# Altium footprint library altera.PCBLIB: 27 footprints (part 1 of 4)
Each footprint in its own frame and in the unit in brackets; x right, y up, seen from the top. Pads: shape width x height; smd on the part's side, far side on the other; paste and mask are expansions set on the pad; w line width, h text height; cw(c..) or ccw(c..) is an arc to the next point about the centre after c.
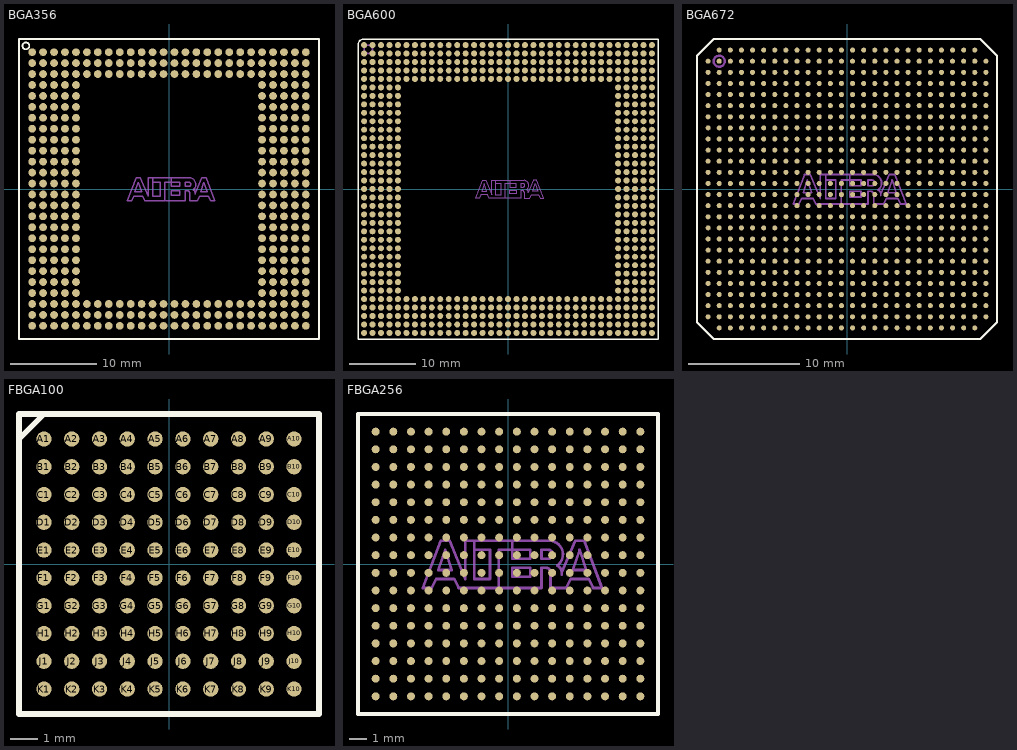
[diagram p0: the footprints below, top view; thin cyan lines are the x and y axes]

## BGA356 [mil]
pads (356):
  rrect100% 35.43x35.43 smd: A1(-625,625) A2(-575,625) A3(-525,625) A4(-475,625) A5(-425,625) A6(-375,625) A7(-325,625) A8(-275,625) A9(-225,625) A10(-175,625) A11(-125,625) A12(-75,625) A13(-25,625) A14(25,625) A15(75,625) A16(125,625) A17(175,625) A18(225,625) A19(275,625) A20(325,625) A21(375,625) A22(425,625) A23(475,625) A24(525,625) A25(575,625) A26(625,625) AA1(-625,-375) AA2(-575,-375) AA3(-525,-375) AA4(-475,-375) AA5(-425,-375) AA22(425,-375) AA23(475,-375) AA24(525,-375) AA25(575,-375) AA26(625,-375) AB1(-625,-425) AB2(-575,-425) AB3(-525,-425) AB4(-475,-425) AB5(-425,-425) AB22(425,-425) AB23(475,-425) AB24(525,-425) AB25(575,-425) AB26(625,-425) AC1(-625,-475) AC2(-575,-475) AC3(-525,-475) AC4(-475,-475) AC5(-425,-475) AC22(425,-475) AC23(475,-475) AC24(525,-475) AC25(575,-475) AC26(625,-475) AD1(-625,-525) AD2(-575,-525) AD3(-525,-525) AD4(-475,-525) AD5(-425,-525) AD6(-375,-525) AD7(-325,-525) AD8(-275,-525) AD9(-225,-525) AD10(-175,-525) AD11(-125,-525) AD12(-75,-525) AD13(-25,-525) AD14(25,-525) AD15(75,-525) AD16(125,-525) AD17(175,-525) AD18(225,-525) AD19(275,-525) AD20(325,-525) AD21(375,-525) AD22(425,-525) AD23(475,-525) AD24(525,-525) AD25(575,-525) AD26(625,-525) AE1(-625,-575) AE2(-575,-575) AE3(-525,-575) AE4(-475,-575) AE5(-425,-575) AE6(-375,-575) AE7(-325,-575) AE8(-275,-575) AE9(-225,-575) AE10(-175,-575) AE11(-125,-575) AE12(-75,-575) AE13(-25,-575) AE14(25,-575) AE15(75,-575) AE16(125,-575) AE17(175,-575) AE18(225,-575) AE19(275,-575) AE20(325,-575) AE21(375,-575) AE22(425,-575) AE23(475,-575) AE24(525,-575) AE25(575,-575) AE26(625,-575) AF1(-625,-625) AF2(-575,-625) AF3(-525,-625) AF4(-475,-625) AF5(-425,-625) AF6(-375,-625) AF7(-325,-625) AF8(-275,-625) AF9(-225,-625) AF10(-175,-625) AF11(-125,-625) AF12(-75,-625) AF13(-25,-625) AF14(25,-625) AF15(75,-625) AF16(125,-625) AF17(175,-625) AF18(225,-625) AF19(275,-625) AF20(325,-625) AF21(375,-625) AF22(425,-625) AF23(475,-625) AF24(525,-625) AF25(575,-625) AF26(625,-625) B1(-625,575) B2(-575,575) B3(-525,575) B4(-475,575) B5(-425,575) B6(-375,575) B7(-325,575) B8(-275,575) B9(-225,575) B10(-175,575) B11(-125,575) B12(-75,575) B13(-25,575) B14(25,575) B15(75,575) B16(125,575) B17(175,575) B18(225,575) B19(275,575) B20(325,575) B21(375,575) B22(425,575) B23(475,575) B24(525,575) B25(575,575) B26(625,575) C1(-625,525) C2(-575,525) C3(-525,525) C4(-475,525) C5(-425,525) C6(-375,525) C7(-325,525) C8(-275,525) C9(-225,525) C10(-175,525) C11(-125,525) C12(-75,525) C13(-25,525) C14(25,525) C15(75,525) C16(125,525) C17(175,525) C18(225,525) C19(275,525) C20(325,525) C21(375,525) C22(425,525) C23(475,525) C24(525,525) C25(575,525) C26(625,525) D1(-625,475) D2(-575,475) D3(-525,475) D4(-475,475) D5(-425,475) D22(425,475) D23(475,475) D24(525,475) D25(575,475) D26(625,475) E1(-625,425) E2(-575,425) E3(-525,425) E4(-475,425) E5(-425,425) E22(425,425) E23(475,425) E24(525,425) E25(575,425) E26(625,425) F1(-625,375) F2(-575,375) F3(-525,375) F4(-475,375) F5(-425,375) F22(425,375) F23(475,375) F24(525,375) F25(575,375) F26(625,375) G1(-625,325) G2(-575,325) G3(-525,325) G4(-475,325) G5(-425,325) G22(425,325) G23(475,325) G24(525,325) G25(575,325) G26(625,325) H1(-625,275) H2(-575,275) H3(-525,275) H4(-475,275) H5(-425,275) H22(425,275) H23(475,275) H24(525,275) H25(575,275) H26(625,275) J1(-625,225) J2(-575,225) J3(-525,225) J4(-475,225) J5(-425,225) J22(425,225) J23(475,225) J24(525,225) J25(575,225) J26(625,225) K1(-625,175) K2(-575,175) K3(-525,175) K4(-475,175) K5(-425,175) K22(425,175) K23(475,175) K24(525,175) K25(575,175) K26(625,175) L1(-625,125) L2(-575,125) L3(-525,125) L4(-475,125) L5(-425,125) L22(425,125) L23(475,125) L24(525,125) L25(575,125) L26(625,125) M1(-625,75) M2(-575,75) M3(-525,75) M4(-475,75) M5(-425,75) M22(425,75) M23(475,75) M24(525,75) M25(575,75) M26(625,75) N1(-625,25) N2(-575,25) N3(-525,25) N4(-475,25) N5(-425,25) N22(425,25) N23(475,25) N24(525,25) N25(575,25) N26(625,25) P1(-625,-25) P2(-575,-25) P3(-525,-25) P4(-475,-25) P5(-425,-25) P22(425,-25) P23(475,-25) P24(525,-25) P25(575,-25) P26(625,-25) R1(-625,-75) R2(-575,-75) R3(-525,-75) R4(-475,-75) R5(-425,-75) R22(425,-75) R23(475,-75) R24(525,-75) R25(575,-75) R26(625,-75) T1(-625,-125) T2(-575,-125) T3(-525,-125) T4(-475,-125) T5(-425,-125) T22(425,-125) T23(475,-125) T24(525,-125) T25(575,-125) T26(625,-125) U1(-625,-175) U2(-575,-175) U3(-525,-175) U4(-475,-175) U5(-425,-175) U22(425,-175) U23(475,-175) U24(525,-175) U25(575,-175) U26(625,-175) V1(-625,-225) V2(-575,-225) V3(-525,-225) V4(-475,-225) V5(-425,-225) V22(425,-225) V23(475,-225) V24(525,-225) V25(575,-225) V26(625,-225) W1(-625,-275) W2(-575,-275) W3(-525,-275) W4(-475,-275) W5(-425,-275) W22(425,-275) W23(475,-275) W24(525,-275) W25(575,-275) W26(625,-275) Y1(-625,-325) Y2(-575,-325) Y3(-525,-325) Y4(-475,-325) Y5(-425,-325) Y22(425,-325) Y23(475,-325) Y24(525,-325) Y25(575,-325) Y26(625,-325)
Top Overlay:
  circle w8: c-653.54,653.54 r15.74
  lines w8: -685.04,-685.04 -685.04,685.04 685.04,685.04 685.04,-685.04 -685.04,-685.04
Mechanical 16:
  lines w6: -15.32,-53.43 74.69,-53.43 74.69,-8.43 84.69,-8.43 cw(c84.69,-18.43) 94.69,-18.43 94.69,-53.43 129.69,-53.43 139.69,-33.43 179.69,-33.43 189.69,-53.43 209.69,-53.43 169.69,51.57 149.69,51.57 119.69,-18.43 ; 119.68,-23.43 ccw(c102.19,-19.67) 109.69,-3.43 ccw(c92.19,21.34) 94.69,51.57 9.69,51.57 ; -75.32,31.57 -75.32,51.57 ; -75.32,31.57 -75.32,-33.43 -40.32,-33.43 -40.32,31.57 -75.32,31.57 ; -75.32,51.57 -95.32,51.57 -95.32,-33.43 -130.32,51.57 -150.32,51.57 -190.32,-53.43 -170.32,-53.43 -160.32,-33.43 -120.32,-33.43 -110.32,-53.43 -20.32,-53.43 -20.32,31.57 9.69,31.57 ; -75.32,51.57 9.69,51.57 ; 9.69,31.57 9.69,51.57 ; 9.69,31.57 9.69,11.57 49.69,11.57 49.69,31.57 9.69,31.57 ; -155.32,-13.43 -140.32,31.57 -125.32,-13.43 -155.32,-13.43 ; 9.69,-28.43 49.69,-28.43 49.69,-8.43 9.69,-8.43 9.69,-28.43 ; 74.69,11.57 74.69,31.57 89.69,31.57 cw(c89.69,21.57) 89.69,11.57 74.69,11.57 ; 144.69,-13.43 174.69,-13.43 159.69,31.57 144.69,-13.43
  text "BGA356" at -35.63,-403.74 h49.6

## BGA600 [mil]
pads (600):
  rrect100% 35.43x35.43 smd: A1(-850,850) A2(-800,850) A3(-750,850) A4(-700,850) A5(-650,850) A6(-600,850) A7(-550,850) A8(-500,850) A9(-450,850) A10(-400,850) A11(-350,850) A12(-300,850) A13(-250,850) A14(-200,850) A15(-150,850) A16(-100,850) A17(-50,850) A18(0,850) A19(50,850) A20(100,850) A21(150,850) A22(200,850) A23(250,850) A24(300,850) A25(350,850) A26(400,850) A27(450,850) A28(500,850) A29(550,850) A30(600,850) A31(650,850) A32(700,850) A33(750,850) A34(800,850) A35(850,850) AA1(-850,-150) AA2(-800,-150) AA3(-750,-150) AA4(-700,-150) AA5(-650,-150) AA31(650,-150) AA32(700,-150) AA33(750,-150) AA34(800,-150) AA35(850,-150) AB1(-850,-200) AB2(-800,-200) AB3(-750,-200) AB4(-700,-200) AB5(-650,-200) AB31(650,-200) AB32(700,-200) AB33(750,-200) AB34(800,-200) AB35(850,-200) AC1(-850,-250) AC2(-800,-250) AC3(-750,-250) AC4(-700,-250) AC5(-650,-250) AC31(650,-250) AC32(700,-250) AC33(750,-250) AC34(800,-250) AC35(850,-250) AD1(-850,-300) AD2(-800,-300) AD3(-750,-300) AD4(-700,-300) AD5(-650,-300) AD31(650,-300) AD32(700,-300) AD33(750,-300) AD34(800,-300) AD35(850,-300) AE1(-850,-350) AE2(-800,-350) AE3(-750,-350) AE4(-700,-350) AE5(-650,-350) AE31(650,-350) AE32(700,-350) AE33(750,-350) AE34(800,-350) AE35(850,-350) AF1(-850,-400) AF2(-800,-400) AF3(-750,-400) AF4(-700,-400) AF5(-650,-400) AF31(650,-400) AF32(700,-400) AF33(750,-400) AF34(800,-400) AF35(850,-400) AG1(-850,-450) AG2(-800,-450) AG3(-750,-450) AG4(-700,-450) AG5(-650,-450) AG31(650,-450) AG32(700,-450) AG33(750,-450) AG34(800,-450) AG35(850,-450) AH1(-850,-500) AH2(-800,-500) AH3(-750,-500) AH4(-700,-500) AH5(-650,-500) AH31(650,-500) AH32(700,-500) AH33(750,-500) AH34(800,-500) AH35(850,-500) AJ1(-850,-550) AJ2(-800,-550) AJ3(-750,-550) AJ4(-700,-550) AJ5(-650,-550) AJ31(650,-550) AJ32(700,-550) AJ33(750,-550) AJ34(800,-550) AJ35(850,-550) AK1(-850,-600) AK2(-800,-600) AK3(-750,-600) AK4(-700,-600) AK5(-650,-600) AK31(650,-600) AK32(700,-600) AK33(750,-600) AK34(800,-600) AK35(850,-600) AL1(-850,-650) AL2(-800,-650) AL3(-750,-650) AL4(-700,-650) AL5(-650,-650) AL6(-600,-650) AL7(-550,-650) AL8(-500,-650) AL9(-450,-650) AL10(-400,-650) AL11(-350,-650) AL12(-300,-650) AL13(-250,-650) AL14(-200,-650) AL15(-150,-650) AL16(-100,-650) AL17(-50,-650) AL18(0,-650) AL19(50,-650) AL20(100,-650) AL21(150,-650) AL22(200,-650) AL23(250,-650) AL24(300,-650) AL25(350,-650) AL26(400,-650) AL27(450,-650) AL28(500,-650) AL29(550,-650) AL30(600,-650) AL31(650,-650) AL32(700,-650) AL33(750,-650) AL34(800,-650) AL35(850,-650) AM1(-850,-700) AM2(-800,-700) AM3(-750,-700) AM4(-700,-700) AM5(-650,-700) AM6(-600,-700) AM7(-550,-700) AM8(-500,-700) AM9(-450,-700) AM10(-400,-700) AM11(-350,-700) AM12(-300,-700) AM13(-250,-700) AM14(-200,-700) AM15(-150,-700) AM16(-100,-700) AM17(-50,-700) AM18(0,-700) AM19(50,-700) AM20(100,-700) AM21(150,-700) AM22(200,-700) AM23(250,-700) AM24(300,-700) AM25(350,-700) AM26(400,-700) AM27(450,-700) AM28(500,-700) AM29(550,-700) AM30(600,-700) AM31(650,-700) AM32(700,-700) AM33(750,-700) AM34(800,-700) AM35(850,-700) AN1(-850,-750) AN2(-800,-750) AN3(-750,-750) AN4(-700,-750) AN5(-650,-750) AN6(-600,-750) AN7(-550,-750) AN8(-500,-750) AN9(-450,-750) AN10(-400,-750) AN11(-350,-750) AN12(-300,-750) AN13(-250,-750) AN14(-200,-750) AN15(-150,-750) AN16(-100,-750) AN17(-50,-750) AN18(0,-750) AN19(50,-750) AN20(100,-750) AN21(150,-750) AN22(200,-750) AN23(250,-750) AN24(300,-750) AN25(350,-750) AN26(400,-750) AN27(450,-750) AN28(500,-750) AN29(550,-750) AN30(600,-750) AN31(650,-750) AN32(700,-750) AN33(750,-750) AN34(800,-750) AN35(850,-750) AP1(-850,-800) AP2(-800,-800) AP3(-750,-800) AP4(-700,-800) AP5(-650,-800) AP6(-600,-800) AP7(-550,-800) AP8(-500,-800) AP9(-450,-800) AP10(-400,-800) AP11(-350,-800) AP12(-300,-800) AP13(-250,-800) AP14(-200,-800) AP15(-150,-800) AP16(-100,-800) AP17(-50,-800) AP18(0,-800) AP19(50,-800) AP20(100,-800) AP21(150,-800) AP22(200,-800) AP23(250,-800) AP24(300,-800) AP25(350,-800) AP26(400,-800) AP27(450,-800) AP28(500,-800) AP29(550,-800) AP30(600,-800) AP31(650,-800) AP32(700,-800) AP33(750,-800) AP34(800,-800) AP35(850,-800) AR1(-850,-850) AR2(-800,-850) AR3(-750,-850) AR4(-700,-850) AR5(-650,-850) AR6(-600,-850) AR7(-550,-850) AR8(-500,-850) AR9(-450,-850) AR10(-400,-850) AR11(-350,-850) AR12(-300,-850) AR13(-250,-850) AR14(-200,-850) AR15(-150,-850) AR16(-100,-850) AR17(-50,-850) AR18(0,-850) AR19(50,-850) AR20(100,-850) AR21(150,-850) AR22(200,-850) AR23(250,-850) AR24(300,-850) AR25(350,-850) AR26(400,-850) AR27(450,-850) AR28(500,-850) AR29(550,-850) AR30(600,-850) AR31(650,-850) AR32(700,-850) AR33(750,-850) AR34(800,-850) AR35(850,-850) B1(-850,800) B2(-800,800) B3(-750,800) B4(-700,800) B5(-650,800) B6(-600,800) B7(-550,800) B8(-500,800) B9(-450,800) B10(-400,800) B11(-350,800) B12(-300,800) B13(-250,800) B14(-200,800) B15(-150,800) B16(-100,800) B17(-50,800) B18(0,800) B19(50,800) B20(100,800) B21(150,800) B22(200,800) B23(250,800) B24(300,800) B25(350,800) B26(400,800) B27(450,800) B28(500,800) B29(550,800) B30(600,800) B31(650,800) B32(700,800) B33(750,800) B34(800,800) B35(850,800) C1(-850,750) C2(-800,750) C3(-750,750) C4(-700,750) C5(-650,750) C6(-600,750) C7(-550,750) C8(-500,750) C9(-450,750) C10(-400,750) C11(-350,750) C12(-300,750) C13(-250,750) C14(-200,750) C15(-150,750) C16(-100,750) C17(-50,750) C18(0,750) C19(50,750) C20(100,750) C21(150,750) C22(200,750) C23(250,750) C24(300,750) C25(350,750) C26(400,750) C27(450,750) C28(500,750) C29(550,750) C30(600,750) C31(650,750) C32(700,750) C33(750,750) C34(800,750) C35(850,750) D1(-850,700) D2(-800,700) D3(-750,700) D4(-700,700) D5(-650,700) D6(-600,700) D7(-550,700) D8(-500,700) D9(-450,700) D10(-400,700) D11(-350,700) D12(-300,700) D13(-250,700) D14(-200,700) D15(-150,700) D16(-100,700) D17(-50,700) D18(0,700) D19(50,700) D20(100,700) D21(150,700) D22(200,700) D23(250,700) D24(300,700) D25(350,700) D26(400,700) D27(450,700) D28(500,700) D29(550,700) D30(600,700) D31(650,700) D32(700,700) D33(750,700) D34(800,700) D35(850,700) E1(-850,650) E2(-800,650) E3(-750,650) E4(-700,650) E5(-650,650) E6(-600,650) E7(-550,650) E8(-500,650) E9(-450,650) E10(-400,650) E11(-350,650) E12(-300,650) E13(-250,650) E14(-200,650) E15(-150,650) E16(-100,650) E17(-50,650) E18(0,650) E19(50,650) E20(100,650) E21(150,650) E22(200,650) E23(250,650) E24(300,650) E25(350,650) E26(400,650) E27(450,650) E28(500,650) E29(550,650) E30(600,650) E31(650,650) E32(700,650) E33(750,650) E34(800,650) E35(850,650) F1(-850,600) F2(-800,600) F3(-750,600) F4(-700,600) F5(-650,600) F31(650,600) F32(700,600) F33(750,600) F34(800,600) F35(850,600) G1(-850,550) G2(-800,550) G3(-750,550) G4(-700,550) G5(-650,550) G31(650,550) G32(700,550) G33(750,550) G34(800,550) G35(850,550) H1(-850,500) H2(-800,500) H3(-750,500) H4(-700,500) H5(-650,500) H31(650,500) H32(700,500) H33(750,500) H34(800,500) H35(850,500) J1(-850,450) J2(-800,450) J3(-750,450) J4(-700,450) J5(-650,450) J31(650,450) J32(700,450) J33(750,450) J34(800,450) J35(850,450) K1(-850,400) K2(-800,400) K3(-750,400) K4(-700,400) K5(-650,400) K31(650,400) K32(700,400) K33(750,400) K34(800,400) K35(850,400) L1(-850,350) L2(-800,350) L3(-750,350) L4(-700,350) L5(-650,350) L31(650,350) L32(700,350) L33(750,350) L34(800,350) L35(850,350) M1(-850,300) M2(-800,300) M3(-750,300) M4(-700,300) M5(-650,300) M31(650,300) M32(700,300) M33(750,300) M34(800,300) M35(850,300) N1(-850,250) N2(-800,250) N3(-750,250) N4(-700,250) N5(-650,250) N31(650,250) N32(700,250) N33(750,250) N34(800,250) N35(850,250) P1(-850,200) P2(-800,200) P3(-750,200) P4(-700,200) P5(-650,200) P31(650,200) P32(700,200) P33(750,200) P34(800,200) P35(850,200) R1(-850,150) R2(-800,150) R3(-750,150) R4(-700,150) R5(-650,150) R31(650,150) R32(700,150) R33(750,150) R34(800,150) R35(850,150) T1(-850,100) T2(-800,100) T3(-750,100) T4(-700,100) T5(-650,100) T31(650,100) T32(700,100) T33(750,100) T34(800,100) T35(850,100) U1(-850,50) U2(-800,50) U3(-750,50) U4(-700,50) U5(-650,50) U31(650,50) U32(700,50) U33(750,50) U34(800,50) U35(850,50) V1(-850,0) V2(-800,0) V3(-750,0) V4(-700,0) V5(-650,0) V31(650,0) V32(700,0) V33(750,0) V34(800,0) V35(850,0) W1(-850,-50) W2(-800,-50) W3(-750,-50) W4(-700,-50) W5(-650,-50) W31(650,-50) W32(700,-50) W33(750,-50) W34(800,-50) W35(850,-50) Y1(-850,-100) Y2(-800,-100) Y3(-750,-100) Y4(-700,-100) Y5(-650,-100) Y31(650,-100) Y32(700,-100) Y33(750,-100) Y34(800,-100) Y35(850,-100)
Top Overlay:
  lines w8: -885.83,-885.83 885.83,-885.83 885.83,885.83 -850.39,885.83 ccw(c-850.39,850.39) -885.83,850.39 -885.83,-885.83
Mechanical 16:
  circle w8: c-825,825 r25
  lines w6: -15.32,-53.43 74.69,-53.43 74.69,-8.43 84.69,-8.43 cw(c84.69,-18.43) 94.69,-18.43 94.69,-53.43 129.69,-53.43 139.69,-33.43 179.69,-33.43 189.69,-53.43 209.69,-53.43 169.69,51.57 149.69,51.57 119.69,-18.43 ; 119.68,-23.43 ccw(c102.19,-19.67) 109.69,-3.43 ccw(c92.19,21.34) 94.69,51.57 9.69,51.57 ; -75.32,31.57 -75.32,51.57 ; -75.32,31.57 -75.32,-33.43 -40.32,-33.43 -40.32,31.57 -75.32,31.57 ; -75.32,51.57 -95.32,51.57 -95.32,-33.43 -130.32,51.57 -150.32,51.57 -190.32,-53.43 -170.32,-53.43 -160.32,-33.43 -120.32,-33.43 -110.32,-53.43 -20.32,-53.43 -20.32,31.57 9.69,31.57 ; -75.32,51.57 9.69,51.57 ; 9.69,31.57 9.69,51.57 ; 9.69,31.57 9.69,11.57 49.69,11.57 49.69,31.57 9.69,31.57 ; -155.32,-13.43 -140.32,31.57 -125.32,-13.43 -155.32,-13.43 ; 9.69,-28.43 49.69,-28.43 49.69,-8.43 9.69,-8.43 9.69,-28.43 ; 74.69,11.57 74.69,31.57 89.69,31.57 cw(c89.69,21.57) 89.69,11.57 74.69,11.57 ; 144.69,-13.43 174.69,-13.43 159.69,31.57 144.69,-13.43
  text "BGA600" at -35.63,-453.74 h49.6

## BGA672 [mil]
pads (672):
  rrect100% 17.72x17.72 smd: A2(-452.76,492.13) A3(-413.39,492.13) A4(-374.02,492.13) A5(-334.65,492.13) A6(-295.28,492.13) A7(-255.91,492.13) A8(-216.54,492.13) A9(-177.17,492.13) A10(-137.8,492.13) A11(-98.43,492.13) A12(-59.06,492.13) A13(-19.69,492.13) A14(19.69,492.13) A15(59.06,492.13) A16(98.43,492.13) A17(137.8,492.13) A18(177.17,492.13) A19(216.54,492.13) A20(255.91,492.13) A21(295.28,492.13) A22(334.65,492.13) A23(374.02,492.13) A24(413.39,492.13) A25(452.76,492.13) AA1(-492.13,-295.28) AA2(-452.76,-295.28) AA3(-413.39,-295.28) AA4(-374.02,-295.28) AA5(-334.65,-295.28) AA6(-295.28,-295.28) AA7(-255.91,-295.28) AA8(-216.54,-295.28) AA9(-177.17,-295.28) AA10(-137.8,-295.28) AA11(-98.43,-295.28) AA12(-59.06,-295.28) AA13(-19.69,-295.28) AA14(19.69,-295.28) AA15(59.06,-295.28) AA16(98.43,-295.28) AA17(137.8,-295.28) AA18(177.17,-295.28) AA19(216.54,-295.28) AA20(255.91,-295.28) AA21(295.28,-295.28) AA22(334.65,-295.28) AA23(374.02,-295.28) AA24(413.39,-295.28) AA25(452.76,-295.28) AA26(492.13,-295.28) AB1(-492.13,-334.65) AB2(-452.76,-334.65) AB3(-413.39,-334.65) AB4(-374.02,-334.65) AB5(-334.65,-334.65) AB6(-295.28,-334.65) AB7(-255.91,-334.65) AB8(-216.54,-334.65) AB9(-177.17,-334.65) AB10(-137.8,-334.65) AB11(-98.43,-334.65) AB12(-59.06,-334.65) AB13(-19.69,-334.65) AB14(19.69,-334.65) AB15(59.06,-334.65) AB16(98.43,-334.65) AB17(137.8,-334.65) AB18(177.17,-334.65) AB19(216.54,-334.65) AB20(255.91,-334.65) AB21(295.28,-334.65) AB22(334.65,-334.65) AB23(374.02,-334.65) AB24(413.39,-334.65) AB25(452.76,-334.65) AB26(492.13,-334.65) AC1(-492.13,-374.02) AC2(-452.76,-374.02) AC3(-413.39,-374.02) AC4(-374.02,-374.02) AC5(-334.65,-374.02) AC6(-295.28,-374.02) AC7(-255.91,-374.02) AC8(-216.54,-374.02) AC9(-177.17,-374.02) AC10(-137.8,-374.02) AC11(-98.43,-374.02) AC12(-59.06,-374.02) AC13(-19.69,-374.02) AC14(19.69,-374.02) AC15(59.06,-374.02) AC16(98.43,-374.02) AC17(137.8,-374.02) AC18(177.17,-374.02) AC19(216.54,-374.02) AC20(255.91,-374.02) AC21(295.28,-374.02) AC22(334.65,-374.02) AC23(374.02,-374.02) AC24(413.39,-374.02) AC25(452.76,-374.02) AC26(492.13,-374.02) AD1(-492.13,-413.39) AD2(-452.76,-413.39) AD3(-413.39,-413.39) AD4(-374.02,-413.39) AD5(-334.65,-413.39) AD6(-295.28,-413.39) AD7(-255.91,-413.39) AD8(-216.54,-413.39) AD9(-177.17,-413.39) AD10(-137.8,-413.39) AD11(-98.43,-413.39) AD12(-59.06,-413.39) AD13(-19.69,-413.39) AD14(19.69,-413.39) AD15(59.06,-413.39) AD16(98.43,-413.39) AD17(137.8,-413.39) AD18(177.17,-413.39) AD19(216.54,-413.39) AD20(255.91,-413.39) AD21(295.28,-413.39) AD22(334.65,-413.39) AD23(374.02,-413.39) AD24(413.39,-413.39) AD25(452.76,-413.39) AD26(492.13,-413.39) AE1(-492.13,-452.76) AE2(-452.76,-452.76) AE3(-413.39,-452.76) AE4(-374.02,-452.76) AE5(-334.65,-452.76) AE6(-295.28,-452.76) AE7(-255.91,-452.76) AE8(-216.54,-452.76) AE9(-177.17,-452.76) AE10(-137.8,-452.76) AE11(-98.43,-452.76) AE12(-59.06,-452.76) AE13(-19.69,-452.76) AE14(19.69,-452.76) AE15(59.06,-452.76) AE16(98.43,-452.76) AE17(137.8,-452.76) AE18(177.17,-452.76) AE19(216.54,-452.76) AE20(255.91,-452.76) AE21(295.28,-452.76) AE22(334.65,-452.76) AE23(374.02,-452.76) AE24(413.39,-452.76) AE25(452.76,-452.76) AE26(492.13,-452.76) AF2(-452.76,-492.13) AF3(-413.39,-492.13) AF4(-374.02,-492.13) AF5(-334.65,-492.13) AF6(-295.28,-492.13) AF7(-255.91,-492.13) AF8(-216.54,-492.13) AF9(-177.17,-492.13) AF10(-137.8,-492.13) AF11(-98.43,-492.13) AF12(-59.06,-492.13) AF13(-19.69,-492.13) AF14(19.69,-492.13) AF15(59.06,-492.13) AF16(98.43,-492.13) AF17(137.8,-492.13) AF18(177.17,-492.13) AF19(216.54,-492.13) AF20(255.91,-492.13) AF21(295.28,-492.13) AF22(334.65,-492.13) AF23(374.02,-492.13) AF24(413.39,-492.13) AF25(452.76,-492.13) B1(-492.13,452.76) B2(-452.76,452.76) B3(-413.39,452.76) B4(-374.02,452.76) B5(-334.65,452.76) B6(-295.28,452.76) B7(-255.91,452.76) B8(-216.54,452.76) B9(-177.17,452.76) B10(-137.8,452.76) B11(-98.43,452.76) B12(-59.06,452.76) B13(-19.69,452.76) B14(19.69,452.76) B15(59.06,452.76) B16(98.43,452.76) B17(137.8,452.76) B18(177.17,452.76) B19(216.54,452.76) B20(255.91,452.76) B21(295.28,452.76) B22(334.65,452.76) B23(374.02,452.76) B24(413.39,452.76) B25(452.76,452.76) B26(492.13,452.76) C1(-492.13,413.39) C2(-452.76,413.39) C3(-413.39,413.39) C4(-374.02,413.39) C5(-334.65,413.39) C6(-295.28,413.39) C7(-255.91,413.39) C8(-216.54,413.39) C9(-177.17,413.39) C10(-137.8,413.39) C11(-98.43,413.39) C12(-59.06,413.39) C13(-19.69,413.39) C14(19.69,413.39) C15(59.06,413.39) C16(98.43,413.39) C17(137.8,413.39) C18(177.17,413.39) C19(216.54,413.39) C20(255.91,413.39) C21(295.28,413.39) C22(334.65,413.39) C23(374.02,413.39) C24(413.39,413.39) C25(452.76,413.39) C26(492.13,413.39) D1(-492.13,374.02) D2(-452.76,374.02) D3(-413.39,374.02) D4(-374.02,374.02) D5(-334.65,374.02) D6(-295.28,374.02) D7(-255.91,374.02) D8(-216.54,374.02) D9(-177.17,374.02) D10(-137.8,374.02) D11(-98.43,374.02) D12(-59.06,374.02) D13(-19.69,374.02) D14(19.69,374.02) D15(59.06,374.02) D16(98.43,374.02) D17(137.8,374.02) D18(177.17,374.02) D19(216.54,374.02) D20(255.91,374.02) D21(295.28,374.02) D22(334.65,374.02) D23(374.02,374.02) D24(413.39,374.02) D25(452.76,374.02) D26(492.13,374.02) E1(-492.13,334.65) E2(-452.76,334.65) E3(-413.39,334.65) E4(-374.02,334.65) E5(-334.65,334.65) E6(-295.28,334.65) E7(-255.91,334.65) E8(-216.54,334.65) E9(-177.17,334.65) E10(-137.8,334.65) E11(-98.43,334.65) E12(-59.06,334.65) E13(-19.69,334.65) E14(19.69,334.65) E15(59.06,334.65) E16(98.43,334.65) E17(137.8,334.65) E18(177.17,334.65) E19(216.54,334.65) E20(255.91,334.65) E21(295.28,334.65) E22(334.65,334.65) E23(374.02,334.65) E24(413.39,334.65) E25(452.76,334.65) E26(492.13,334.65) F1(-492.13,295.28) F2(-452.76,295.28) F3(-413.39,295.28) F4(-374.02,295.28) F5(-334.65,295.28) F6(-295.28,295.28) F7(-255.91,295.28) F8(-216.54,295.28) F9(-177.17,295.28) F10(-137.8,295.28) F11(-98.43,295.28) F12(-59.06,295.28) F13(-19.69,295.28) F14(19.69,295.28) F15(59.06,295.28) F16(98.43,295.28) F17(137.8,295.28) F18(177.17,295.28) F19(216.54,295.28) F20(255.91,295.28) F21(295.28,295.28) F22(334.65,295.28) F23(374.02,295.28) F24(413.39,295.28) F25(452.76,295.28) F26(492.13,295.28) G1(-492.13,255.91) G2(-452.76,255.91) G3(-413.39,255.91) G4(-374.02,255.91) G5(-334.65,255.91) G6(-295.28,255.91) G7(-255.91,255.91) G8(-216.54,255.91) G9(-177.17,255.91) G10(-137.8,255.91) G11(-98.43,255.91) G12(-59.06,255.91) G13(-19.69,255.91) G14(19.69,255.91) G15(59.06,255.91) G16(98.43,255.91) G17(137.8,255.91) G18(177.17,255.91) G19(216.54,255.91) G20(255.91,255.91) G21(295.28,255.91) G22(334.65,255.91) G23(374.02,255.91) G24(413.39,255.91) G25(452.76,255.91) G26(492.13,255.91) H1(-492.13,216.54) H2(-452.76,216.54) H3(-413.39,216.54) H4(-374.02,216.54) H5(-334.65,216.54) H6(-295.28,216.54) H7(-255.91,216.54) H8(-216.54,216.54) H9(-177.17,216.54) H10(-137.8,216.54) H11(-98.43,216.54) H12(-59.06,216.54) H13(-19.69,216.54) H14(19.69,216.54) H15(59.06,216.54) H16(98.43,216.54) H17(137.8,216.54) H18(177.17,216.54) H19(216.54,216.54) H20(255.91,216.54) H21(295.28,216.54) H22(334.65,216.54) H23(374.02,216.54) H24(413.39,216.54) H25(452.76,216.54) H26(492.13,216.54) J1(-492.13,177.17) J2(-452.76,177.17) J3(-413.39,177.17) J4(-374.02,177.17) J5(-334.65,177.17) J6(-295.28,177.17) J7(-255.91,177.17) J8(-216.54,177.17) J9(-177.17,177.17) J10(-137.8,177.17) J11(-98.43,177.17) J12(-59.06,177.17) J13(-19.69,177.17) J14(19.69,177.17) J15(59.06,177.17) J16(98.43,177.17) J17(137.8,177.17) J18(177.17,177.17) J19(216.54,177.17) J20(255.91,177.17) J21(295.28,177.17) J22(334.65,177.17) J23(374.02,177.17) J24(413.39,177.17) J25(452.76,177.17) J26(492.13,177.17) K1(-492.13,137.8) K2(-452.76,137.8) K3(-413.39,137.8) K4(-374.02,137.8) K5(-334.65,137.8) K6(-295.28,137.8) K7(-255.91,137.8) K8(-216.54,137.8) K9(-177.17,137.8) K10(-137.8,137.8) K11(-98.43,137.8) K12(-59.06,137.8) K13(-19.69,137.8) K14(19.69,137.8) K15(59.06,137.8) K16(98.43,137.8) K17(137.8,137.8) K18(177.17,137.8) K19(216.54,137.8) K20(255.91,137.8) K21(295.28,137.8) K22(334.65,137.8) K23(374.02,137.8) K24(413.39,137.8) K25(452.76,137.8) K26(492.13,137.8) L1(-492.13,98.43) L2(-452.76,98.43) L3(-413.39,98.43) L4(-374.02,98.43) L5(-334.65,98.43) L6(-295.28,98.43) L7(-255.91,98.43) L8(-216.54,98.43) L9(-177.17,98.43) L10(-137.8,98.43) L11(-98.43,98.43) L12(-59.06,98.43) L13(-19.69,98.43) L14(19.69,98.43) L15(59.06,98.43) L16(98.43,98.43) L17(137.8,98.43) L18(177.17,98.43) L19(216.54,98.43) L20(255.91,98.43) L21(295.28,98.43) L22(334.65,98.43) L23(374.02,98.43) L24(413.39,98.43) L25(452.76,98.43) L26(492.13,98.43) M1(-492.13,59.06) M2(-452.76,59.06) M3(-413.39,59.06) M4(-374.02,59.06) M5(-334.65,59.06) M6(-295.28,59.06) M7(-255.91,59.06) M8(-216.54,59.06) M9(-177.17,59.06) M10(-137.8,59.06) M11(-98.43,59.06) M12(-59.06,59.06) M13(-19.69,59.06) M14(19.69,59.06) M15(59.06,59.06) M16(98.43,59.06) M17(137.8,59.06) M18(177.17,59.06) M19(216.54,59.06) M20(255.91,59.06) M21(295.28,59.06) M22(334.65,59.06) M23(374.02,59.06) M24(413.39,59.06) M25(452.76,59.06) M26(492.13,59.06) N1(-492.13,19.69) N2(-452.76,19.69) N3(-413.39,19.69) N4(-374.02,19.69) N5(-334.65,19.69) N6(-295.28,19.69) N7(-255.91,19.69) N8(-216.54,19.69) N9(-177.17,19.69) N10(-137.8,19.69) N11(-98.43,19.69) N12(-59.06,19.69) N13(-19.69,19.69) N14(19.69,19.69) N15(59.06,19.69) N16(98.43,19.69) N17(137.8,19.69) N18(177.17,19.69) N19(216.54,19.69) N20(255.91,19.69) N21(295.28,19.69) N22(334.65,19.69) N23(374.02,19.69) N24(413.39,19.69) N25(452.76,19.69) N26(492.13,19.69) P1(-492.13,-19.69) P2(-452.76,-19.69) P3(-413.39,-19.69) P4(-374.02,-19.69) P5(-334.65,-19.69) P6(-295.28,-19.69) P7(-255.91,-19.69) P8(-216.54,-19.69) P9(-177.17,-19.69) P10(-137.8,-19.69) P11(-98.43,-19.69) P12(-59.06,-19.69) P13(-19.69,-19.69) P14(19.69,-19.69) P15(59.06,-19.69) P16(98.43,-19.69) P17(137.8,-19.69) P18(177.17,-19.69) P19(216.54,-19.69) P20(255.91,-19.69) P21(295.28,-19.69) P22(334.65,-19.69) P23(374.02,-19.69) P24(413.39,-19.69) P25(452.76,-19.69) P26(492.13,-19.69) R1(-492.13,-59.06) R2(-452.76,-59.06) R3(-413.39,-59.06) R4(-374.02,-59.06) R5(-334.65,-59.06) R6(-295.28,-59.06) R7(-255.91,-59.06) R8(-216.54,-59.06) R9(-177.17,-59.06) R10(-137.8,-59.06) R11(-98.43,-59.06) R12(-59.06,-59.06) R13(-19.69,-59.06) R14(19.69,-59.06) R15(59.06,-59.06) R16(98.43,-59.06) R17(137.8,-59.06) R18(177.17,-59.06) R19(216.54,-59.06) R20(255.91,-59.06) R21(295.28,-59.06) R22(334.65,-59.06) R23(374.02,-59.06) R24(413.39,-59.06) R25(452.76,-59.06) R26(492.13,-59.06) T1(-492.13,-98.43) T2(-452.76,-98.43) T3(-413.39,-98.43) T4(-374.02,-98.43) T5(-334.65,-98.43) T6(-295.28,-98.43) T7(-255.91,-98.43) T8(-216.54,-98.43) T9(-177.17,-98.43) T10(-137.8,-98.43) T11(-98.43,-98.43) T12(-59.06,-98.43) T13(-19.69,-98.43) T14(19.69,-98.43) T15(59.06,-98.43) T16(98.43,-98.43) T17(137.8,-98.43) T18(177.17,-98.43) T19(216.54,-98.43) T20(255.91,-98.43) T21(295.28,-98.43) T22(334.65,-98.43) T23(374.02,-98.43) T24(413.39,-98.43) T25(452.76,-98.43) T26(492.13,-98.43) U1(-492.13,-137.8) U2(-452.76,-137.8) U3(-413.39,-137.8) U4(-374.02,-137.8) U5(-334.65,-137.8) U6(-295.28,-137.8) U7(-255.91,-137.8) U8(-216.54,-137.8) U9(-177.17,-137.8) U10(-137.8,-137.8) U11(-98.43,-137.8) U12(-59.06,-137.8) U13(-19.69,-137.8) U14(19.69,-137.8) U15(59.06,-137.8) U16(98.43,-137.8) U17(137.8,-137.8) U18(177.17,-137.8) U19(216.54,-137.8) U20(255.91,-137.8) U21(295.28,-137.8) U22(334.65,-137.8) U23(374.02,-137.8) U24(413.39,-137.8) U25(452.76,-137.8) U26(492.13,-137.8) V1(-492.13,-177.17) V2(-452.76,-177.17) V3(-413.39,-177.17) V4(-374.02,-177.17) V5(-334.65,-177.17) V6(-295.28,-177.17) V7(-255.91,-177.17) V8(-216.54,-177.17) V9(-177.17,-177.17) V10(-137.8,-177.17) V11(-98.43,-177.17) V12(-59.06,-177.17) V13(-19.69,-177.17) V14(19.69,-177.17) V15(59.06,-177.17) V16(98.43,-177.17) V17(137.8,-177.17) V18(177.17,-177.17) V19(216.54,-177.17) V20(255.91,-177.17) V21(295.28,-177.17) V22(334.65,-177.17) V23(374.02,-177.17) V24(413.39,-177.17) V25(452.76,-177.17) V26(492.13,-177.17) W1(-492.13,-216.54) W2(-452.76,-216.54) W3(-413.39,-216.54) W4(-374.02,-216.54) W5(-334.65,-216.54) W6(-295.28,-216.54) W7(-255.91,-216.54) W8(-216.54,-216.54) W9(-177.17,-216.54) W10(-137.8,-216.54) W11(-98.43,-216.54) W12(-59.06,-216.54) W13(-19.69,-216.54) W14(19.69,-216.54) W15(59.06,-216.54) W16(98.43,-216.54) W17(137.8,-216.54) W18(177.17,-216.54) W19(216.54,-216.54) W20(255.91,-216.54) W21(295.28,-216.54) W22(334.65,-216.54) W23(374.02,-216.54) W24(413.39,-216.54) W25(452.76,-216.54) W26(492.13,-216.54) Y1(-492.13,-255.91) Y2(-452.76,-255.91) Y3(-413.39,-255.91) Y4(-374.02,-255.91) Y5(-334.65,-255.91) Y6(-295.28,-255.91) Y7(-255.91,-255.91) Y8(-216.54,-255.91) Y9(-177.17,-255.91) Y10(-137.8,-255.91) Y11(-98.43,-255.91) Y12(-59.06,-255.91) Y13(-19.69,-255.91) Y14(19.69,-255.91) Y15(59.06,-255.91) Y16(98.43,-255.91) Y17(137.8,-255.91) Y18(177.17,-255.91) Y19(216.54,-255.91) Y20(255.91,-255.91) Y21(295.28,-255.91) Y22(334.65,-255.91) Y23(374.02,-255.91) Y24(413.39,-255.91) Y25(452.76,-255.91) Y26(492.13,-255.91)
Top Overlay:
  lines w8: -531.5,-472.44 -472.44,-531.5 472.44,-531.5 531.5,-472.44 531.5,472.44 472.44,531.5 -472.44,531.5 -531.5,472.44 -531.5,-472.44
Mechanical 16:
  circle w8: c-452.76,452.76 r19.69
  lines w6: -15.32,-53.43 74.69,-53.43 74.69,-8.43 84.69,-8.43 cw(c84.69,-18.43) 94.69,-18.43 94.69,-53.43 129.69,-53.43 139.69,-33.43 179.69,-33.43 189.69,-53.43 209.69,-53.43 169.69,51.57 149.69,51.57 119.69,-18.43 ; 119.68,-23.43 ccw(c102.19,-19.67) 109.69,-3.43 ccw(c92.19,21.34) 94.69,51.57 9.69,51.57 ; -75.32,31.57 -75.32,51.57 ; -75.32,31.57 -75.32,-33.43 -40.32,-33.43 -40.32,31.57 -75.32,31.57 ; -75.32,51.57 -95.32,51.57 -95.32,-33.43 -130.32,51.57 -150.32,51.57 -190.32,-53.43 -170.32,-53.43 -160.32,-33.43 -120.32,-33.43 -110.32,-53.43 -20.32,-53.43 -20.32,31.57 9.69,31.57 ; -75.32,51.57 9.69,51.57 ; 9.69,31.57 9.69,51.57 ; 9.69,31.57 9.69,11.57 49.69,11.57 49.69,31.57 9.69,31.57 ; -155.32,-13.43 -140.32,31.57 -125.32,-13.43 -155.32,-13.43 ; 9.69,-28.43 49.69,-28.43 49.69,-8.43 9.69,-8.43 9.69,-28.43 ; 74.69,11.57 74.69,31.57 89.69,31.57 cw(c89.69,21.57) 89.69,11.57 74.69,11.57 ; 144.69,-13.43 174.69,-13.43 159.69,31.57 144.69,-13.43
  text "BGA672" at -55.31,-108.46 h49.6

## FBGA100 [mil]
pads (100):
  rrect100% 21.65x21.65 smd: A1(-177.17,177.17) A2(-137.8,177.17) A3(-98.43,177.17) A4(-59.06,177.17) A5(-19.69,177.17) A6(19.69,177.17) A7(59.06,177.17) A8(98.43,177.17) A9(137.8,177.17) A10(177.17,177.17) B1(-177.17,137.8) B2(-137.8,137.8) B3(-98.43,137.8) B4(-59.06,137.8) B5(-19.69,137.8) B6(19.69,137.8) B7(59.06,137.8) B8(98.43,137.8) B9(137.8,137.8) B10(177.17,137.8) C1(-177.17,98.43) C2(-137.8,98.43) C3(-98.43,98.43) C4(-59.06,98.43) C5(-19.69,98.43) C6(19.69,98.43) C7(59.06,98.43) C8(98.43,98.43) C9(137.8,98.43) C10(177.17,98.43) D1(-177.17,59.06) D2(-137.8,59.06) D3(-98.43,59.06) D4(-59.06,59.06) D5(-19.69,59.06) D6(19.69,59.06) D7(59.06,59.06) D8(98.43,59.06) D9(137.8,59.06) D10(177.17,59.06) E1(-177.17,19.69) E2(-137.8,19.69) E3(-98.43,19.69) E4(-59.06,19.69) E5(-19.69,19.69) E6(19.69,19.69) E7(59.06,19.69) E8(98.43,19.69) E9(137.8,19.69) E10(177.17,19.69) F1(-177.17,-19.69) F2(-137.8,-19.69) F3(-98.43,-19.69) F4(-59.06,-19.69) F5(-19.69,-19.69) F6(19.69,-19.69) F7(59.06,-19.69) F8(98.43,-19.69) F9(137.8,-19.69) F10(177.17,-19.69) G1(-177.17,-59.06) G2(-137.8,-59.06) G3(-98.43,-59.06) G4(-59.06,-59.06) G5(-19.69,-59.06) G6(19.69,-59.06) G7(59.06,-59.06) G8(98.43,-59.06) G9(137.8,-59.06) G10(177.17,-59.06) H1(-177.17,-98.43) H2(-137.8,-98.43) H3(-98.43,-98.43) H4(-59.06,-98.43) H5(-19.69,-98.43) H6(19.69,-98.43) H7(59.06,-98.43) H8(98.43,-98.43) H9(137.8,-98.43) H10(177.17,-98.43) J1(-177.17,-137.8) J2(-137.8,-137.8) J3(-98.43,-137.8) J4(-59.06,-137.8) J5(-19.69,-137.8) J6(19.69,-137.8) J7(59.06,-137.8) J8(98.43,-137.8) J9(137.8,-137.8) J10(177.17,-137.8) K1(-177.17,-177.17) K2(-137.8,-177.17) K3(-98.43,-177.17) K4(-59.06,-177.17) K5(-19.69,-177.17) K6(19.69,-177.17) K7(59.06,-177.17) K8(98.43,-177.17) K9(137.8,-177.17) K10(177.17,-177.17)
Top Overlay:
  lines w8: -212.54,177.17 -212.54,212.54 -177.17,212.54 ; -212.54,177.17 -212.54,-212.54 212.54,-212.54 212.54,212.54 -177.17,212.54 ; -212.54,177.17 -177.17,212.54
Top Solder:
  circle w0: c177.17,-177.17 r8.86
  circle w0: c137.8,-177.17 r8.86
  circle w0: c98.43,-177.17 r8.86
  circle w0: c59.06,-177.17 r8.86
  circle w0: c19.69,-177.17 r8.86
  circle w0: c-19.69,-177.17 r8.86
  circle w0: c-59.06,-177.17 r8.86
  circle w0: c-98.43,-177.17 r8.86
  circle w0: c-137.8,-177.17 r8.86
  circle w0: c-177.17,-177.17 r8.86
  circle w0: c177.17,-137.8 r8.86
  circle w0: c137.8,-137.8 r8.86
  circle w0: c98.43,-137.8 r8.86
  circle w0: c59.06,-137.8 r8.86
  circle w0: c19.69,-137.8 r8.86
  circle w0: c-19.69,-137.8 r8.86
  circle w0: c-59.06,-137.8 r8.86
  circle w0: c-98.43,-137.8 r8.86
  circle w0: c-137.8,-137.8 r8.86
  circle w0: c-177.17,-137.8 r8.86
  circle w0: c177.17,-98.43 r8.86
  circle w0: c137.8,-98.43 r8.86
  circle w0: c98.43,-98.43 r8.86
  circle w0: c59.06,-98.43 r8.86
  circle w0: c19.69,-98.43 r8.86
  circle w0: c-19.69,-98.43 r8.86
  circle w0: c-59.06,-98.43 r8.86
  circle w0: c-98.43,-98.43 r8.86
  circle w0: c-137.8,-98.43 r8.86
  circle w0: c-177.17,-98.43 r8.86
  circle w0: c177.17,-59.06 r8.86
  circle w0: c137.8,-59.06 r8.86
  circle w0: c98.43,-59.06 r8.86
  circle w0: c59.06,-59.06 r8.86
  circle w0: c19.69,-59.06 r8.86
  circle w0: c-19.69,-59.06 r8.86
  circle w0: c-59.06,-59.06 r8.86
  circle w0: c-98.43,-59.06 r8.86
  circle w0: c-137.8,-59.06 r8.86
  circle w0: c-177.17,-59.06 r8.86
  circle w0: c177.17,-19.69 r8.86
  circle w0: c137.8,-19.69 r8.86
  circle w0: c98.43,-19.69 r8.86
  circle w0: c59.06,-19.69 r8.86
  circle w0: c19.69,-19.69 r8.86
  circle w0: c-19.69,-19.69 r8.86
  circle w0: c-59.06,-19.69 r8.86
  circle w0: c-98.43,-19.69 r8.86
  circle w0: c-137.8,-19.69 r8.86
  circle w0: c-177.17,-19.69 r8.86
  circle w0: c177.17,19.69 r8.86
  circle w0: c137.8,19.69 r8.86
  circle w0: c98.43,19.69 r8.86
  circle w0: c59.06,19.69 r8.86
  circle w0: c19.69,19.69 r8.86
  circle w0: c-19.69,19.69 r8.86
  circle w0: c-59.06,19.69 r8.86
  circle w0: c-98.43,19.69 r8.86
  circle w0: c-137.8,19.69 r8.86
  circle w0: c-177.17,19.69 r8.86
  circle w0: c177.17,59.06 r8.86
  circle w0: c137.8,59.06 r8.86
  circle w0: c98.43,59.06 r8.86
  circle w0: c59.06,59.06 r8.86
  circle w0: c19.69,59.06 r8.86
  circle w0: c-19.69,59.06 r8.86
  circle w0: c-59.06,59.06 r8.86
  circle w0: c-98.43,59.06 r8.86
  circle w0: c-137.8,59.06 r8.86
  circle w0: c-177.17,59.06 r8.86
  circle w0: c177.17,98.43 r8.86
  circle w0: c137.8,98.43 r8.86
  circle w0: c98.43,98.43 r8.86
  circle w0: c59.06,98.43 r8.86
  circle w0: c19.69,98.43 r8.86
  circle w0: c-19.69,98.43 r8.86
  circle w0: c-59.06,98.43 r8.86
  circle w0: c-98.43,98.43 r8.86
  circle w0: c-137.8,98.43 r8.86
  circle w0: c-177.17,98.43 r8.86
  circle w0: c177.17,137.8 r8.86
  circle w0: c137.8,137.8 r8.86
  circle w0: c98.43,137.8 r8.86
  circle w0: c59.06,137.8 r8.86
  circle w0: c19.69,137.8 r8.86
  circle w0: c-19.69,137.8 r8.86
  circle w0: c-59.06,137.8 r8.86
  circle w0: c-98.43,137.8 r8.86
  circle w0: c-137.8,137.8 r8.86
  circle w0: c-177.17,137.8 r8.86
  circle w0: c177.17,177.17 r8.86
  circle w0: c137.8,177.17 r8.86
  circle w0: c98.43,177.17 r8.86
  circle w0: c59.06,177.17 r8.86
  circle w0: c19.69,177.17 r8.86
  circle w0: c-19.69,177.17 r8.86
  circle w0: c-59.06,177.17 r8.86
  circle w0: c-98.43,177.17 r8.86
  circle w0: c-137.8,177.17 r8.86
  circle w0: c-177.17,177.17 r8.86

## FBGA256 [mil]
pads (256):
  rrect100% 17.72x17.72 smd: A1(-295.28,295.28) A2(-255.91,295.28) A3(-216.54,295.28) A4(-177.17,295.28) A5(-137.8,295.28) A6(-98.43,295.28) A7(-59.06,295.28) A8(-19.69,295.28) A9(19.69,295.28) A10(59.06,295.28) A11(98.43,295.28) A12(137.8,295.28) A13(177.17,295.28) A14(216.54,295.28) A15(255.91,295.28) A16(295.28,295.28) B1(-295.28,255.91) B2(-255.91,255.91) B3(-216.54,255.91) B4(-177.17,255.91) B5(-137.8,255.91) B6(-98.43,255.91) B7(-59.06,255.91) B8(-19.69,255.91) B9(19.69,255.91) B10(59.06,255.91) B11(98.43,255.91) B12(137.8,255.91) B13(177.17,255.91) B14(216.54,255.91) B15(255.91,255.91) B16(295.28,255.91) C1(-295.28,216.54) C2(-255.91,216.54) C3(-216.54,216.54) C4(-177.17,216.54) C5(-137.8,216.54) C6(-98.43,216.54) C7(-59.06,216.54) C8(-19.69,216.54) C9(19.69,216.54) C10(59.06,216.54) C11(98.43,216.54) C12(137.8,216.54) C13(177.17,216.54) C14(216.54,216.54) C15(255.91,216.54) C16(295.28,216.54) D1(-295.28,177.17) D2(-255.91,177.17) D3(-216.54,177.17) D4(-177.17,177.17) D5(-137.8,177.17) D6(-98.43,177.17) D7(-59.06,177.17) D8(-19.69,177.17) D9(19.69,177.17) D10(59.06,177.17) D11(98.43,177.17) D12(137.8,177.17) D13(177.17,177.17) D14(216.54,177.17) D15(255.91,177.17) D16(295.28,177.17) E1(-295.28,137.8) E2(-255.91,137.8) E3(-216.54,137.8) E4(-177.17,137.8) E5(-137.8,137.8) E6(-98.43,137.8) E7(-59.06,137.8) E8(-19.69,137.8) E9(19.69,137.8) E10(59.06,137.8) E11(98.43,137.8) E12(137.8,137.8) E13(177.17,137.8) E14(216.54,137.8) E15(255.91,137.8) E16(295.28,137.8) F1(-295.28,98.43) F2(-255.91,98.43) F3(-216.54,98.43) F4(-177.17,98.43) F5(-137.8,98.43) F6(-98.43,98.43) F7(-59.06,98.43) F8(-19.69,98.43) F9(19.69,98.43) F10(59.06,98.43) F11(98.43,98.43) F12(137.8,98.43) F13(177.17,98.43) F14(216.54,98.43) F15(255.91,98.43) F16(295.28,98.43) G1(-295.28,59.06) G2(-255.91,59.06) G3(-216.54,59.06) G4(-177.17,59.06) G5(-137.8,59.06) G6(-98.43,59.06) G7(-59.06,59.06) G8(-19.69,59.06) G9(19.69,59.06) G10(59.06,59.06) G11(98.43,59.06) G12(137.8,59.06) G13(177.17,59.06) G14(216.54,59.06) G15(255.91,59.06) G16(295.28,59.06) H1(-295.28,19.69) H2(-255.91,19.69) H3(-216.54,19.69) H4(-177.17,19.69) H5(-137.8,19.69) H6(-98.43,19.69) H7(-59.06,19.69) H8(-19.69,19.69) H9(19.69,19.69) H10(59.06,19.69) H11(98.43,19.69) H12(137.8,19.69) H13(177.17,19.69) H14(216.54,19.69) H15(255.91,19.69) H16(295.28,19.69) J1(-295.28,-19.69) J2(-255.91,-19.69) J3(-216.54,-19.69) J4(-177.17,-19.69) J5(-137.8,-19.69) J6(-98.43,-19.69) J7(-59.06,-19.69) J8(-19.69,-19.69) J9(19.69,-19.69) J10(59.06,-19.69) J11(98.43,-19.69) J12(137.8,-19.69) J13(177.17,-19.69) J14(216.54,-19.69) J15(255.91,-19.69) J16(295.28,-19.69) K1(-295.28,-59.06) K2(-255.91,-59.06) K3(-216.54,-59.06) K4(-177.17,-59.06) K5(-137.8,-59.06) K6(-98.43,-59.06) K7(-59.06,-59.06) K8(-19.69,-59.06) K9(19.69,-59.06) K10(59.06,-59.06) K11(98.43,-59.06) K12(137.8,-59.06) K13(177.17,-59.06) K14(216.54,-59.06) K15(255.91,-59.06) K16(295.28,-59.06) L1(-295.28,-98.43) L2(-255.91,-98.43) L3(-216.54,-98.43) L4(-177.17,-98.43) L5(-137.8,-98.43) L6(-98.43,-98.43) L7(-59.06,-98.43) L8(-19.69,-98.43) L9(19.69,-98.43) L10(59.06,-98.43) L11(98.43,-98.43) L12(137.8,-98.43) L13(177.17,-98.43) L14(216.54,-98.43) L15(255.91,-98.43) L16(295.28,-98.43) M1(-295.28,-137.8) M2(-255.91,-137.8) M3(-216.54,-137.8) M4(-177.17,-137.8) M5(-137.8,-137.8) M6(-98.43,-137.8) M7(-59.06,-137.8) M8(-19.69,-137.8) M9(19.69,-137.8) M10(59.06,-137.8) M11(98.43,-137.8) M12(137.8,-137.8) M13(177.17,-137.8) M14(216.54,-137.8) M15(255.91,-137.8) M16(295.28,-137.8) N1(-295.28,-177.17) N2(-255.91,-177.17) N3(-216.54,-177.17) N4(-177.17,-177.17) N5(-137.8,-177.17) N6(-98.43,-177.17) N7(-59.06,-177.17) N8(-19.69,-177.17) N9(19.69,-177.17) N10(59.06,-177.17) N11(98.43,-177.17) N12(137.8,-177.17) N13(177.17,-177.17) N14(216.54,-177.17) N15(255.91,-177.17) N16(295.28,-177.17) P1(-295.28,-216.54) P2(-255.91,-216.54) P3(-216.54,-216.54) P4(-177.17,-216.54) P5(-137.8,-216.54) P6(-98.43,-216.54) P7(-59.06,-216.54) P8(-19.69,-216.54) P9(19.69,-216.54) P10(59.06,-216.54) P11(98.43,-216.54) P12(137.8,-216.54) P13(177.17,-216.54) P14(216.54,-216.54) P15(255.91,-216.54) P16(295.28,-216.54) R1(-295.28,-255.91) R2(-255.91,-255.91) R3(-216.54,-255.91) R4(-177.17,-255.91) R5(-137.8,-255.91) R6(-98.43,-255.91) R7(-59.06,-255.91) R8(-19.69,-255.91) R9(19.69,-255.91) R10(59.06,-255.91) R11(98.43,-255.91) R12(137.8,-255.91) R13(177.17,-255.91) R14(216.54,-255.91) R15(255.91,-255.91) R16(295.28,-255.91) T1(-295.28,-295.28) T2(-255.91,-295.28) T3(-216.54,-295.28) T4(-177.17,-295.28) T5(-137.8,-295.28) T6(-98.43,-295.28) T7(-59.06,-295.28) T8(-19.69,-295.28) T9(19.69,-295.28) T10(59.06,-295.28) T11(98.43,-295.28) T12(137.8,-295.28) T13(177.17,-295.28) T14(216.54,-295.28) T15(255.91,-295.28) T16(295.28,-295.28)
Top Overlay:
  lines w8: -334.65,-334.65 334.65,-334.65 334.65,334.65 -334.65,334.65 -334.65,-334.65
Mechanical 16:
  lines w6: -15.32,-53.43 74.69,-53.43 74.69,-8.43 84.69,-8.43 cw(c84.69,-18.43) 94.69,-18.43 94.69,-53.43 129.69,-53.43 139.69,-33.43 179.69,-33.43 189.69,-53.43 209.69,-53.43 169.69,51.57 149.69,51.57 119.69,-18.43 ; 119.68,-23.43 ccw(c102.19,-19.67) 109.69,-3.43 ccw(c92.19,21.34) 94.69,51.57 9.69,51.57 ; -75.32,31.57 -75.32,51.57 ; -75.32,31.57 -75.32,-33.43 -40.32,-33.43 -40.32,31.57 -75.32,31.57 ; -75.32,51.57 -95.32,51.57 -95.32,-33.43 -130.32,51.57 -150.32,51.57 -190.32,-53.43 -170.32,-53.43 -160.32,-33.43 -120.32,-33.43 -110.32,-53.43 -20.32,-53.43 -20.32,31.57 9.69,31.57 ; -75.32,51.57 9.69,51.57 ; 9.69,31.57 9.69,51.57 ; 9.69,31.57 9.69,11.57 49.69,11.57 49.69,31.57 9.69,31.57 ; -155.32,-13.43 -140.32,31.57 -125.32,-13.43 -155.32,-13.43 ; 9.69,-28.43 49.69,-28.43 49.69,-8.43 9.69,-8.43 9.69,-28.43 ; 74.69,11.57 74.69,31.57 89.69,31.57 cw(c89.69,21.57) 89.69,11.57 74.69,11.57 ; 144.69,-13.43 174.69,-13.43 159.69,31.57 144.69,-13.43
  text "FBGA256" at -74.69,-158.46 h49.6